# EAGLE library part USB_C (library tecsmith_keyboards)
USB Type-C USB 2.0 Connector
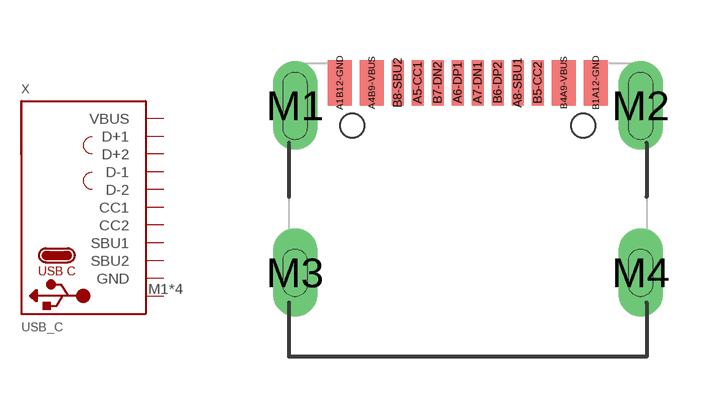
[diagram p0: symbol with the pads of TYPE-C-31-M-12; footprint TYPE-C-31-M-12]

Designator prefix X

## USB_C  [TYPE-C-31-M-12]
A1B12-GND  GND  pwr
A4B9-VBUS  VBUS  pwr
A5-CC1  CC1
A6-DP1  D+1
A7-DN1  D-1
A8-SBU1  SBU1
B1A12-GND  GND  pwr
B4A9-VBUS  VBUS  pwr
B5-CC2  CC2
B6-DP2  D+2
B7-DN2  D-2
B8-SBU2  SBU2
M1  SHIELD  nc
M2  SHIELD  nc
M3  SHIELD  nc
M4  SHIELD  nc

## Footprint TYPE-C-31-M-12 (pad centres in mm)
smd 0.6 x 1.14: A1B12-GND -3.2,3.16; A4B9-VBUS -2.4,3.16; B1A12-GND 3.2,3.16; B4A9-VBUS 2.4,3.16
smd 0.3 x 1.14: A5-CC1 -1.25,3.16; A6-DP1 -0.25,3.16; A7-DN1 0.25,3.16; A8-SBU1 1.25,3.16; B5-CC2 1.75,3.16; B6-DP2 0.75,3.16; B7-DN2 -0.75,3.16; B8-SBU2 -1.75,3.16
drill 0.6 pad 1 long: M1 -4.32,2.59; M2 4.32,2.59; M3 -4.32,-1.59; M4 4.32,-1.59
hole 0.6 at 2.89,2.09
hole 0.6 at -2.89,2.09